# EAGLE library part PWR_REG_TCS4525 (library !GPLIB_ACTIVE)
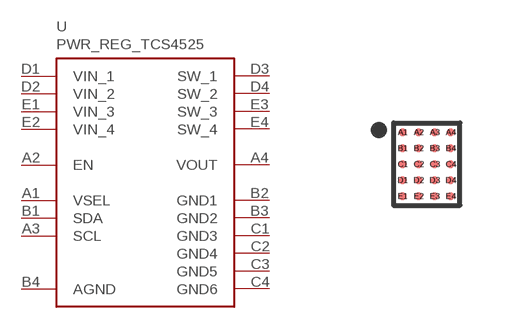
[diagram p112: symbol with the pads of WLCSP-20_L2.0-W1.6-R5-C4-P0.40-TL; footprint WLCSP-20_L2.0-W1.6-R5-C4-P0.40-TL]

Designator prefix U

## PWR_REG_TCS4525_TCS4525_WT  [WLCSP-20_L2.0-W1.6-R5-C4-P0.40-TL]
A1  VSEL  out
A2  EN  out
A3  SCL  out
A4  VOUT  out
B1  SDA  out
B2  GND1  pwr
B3  GND2  pwr
B4  AGND  pwr
C1  GND3  pwr
C2  GND4  pwr
C3  GND5  pwr
C4  GND6  pwr
D1  VIN_1  in
D2  VIN_2  in
D3  SW_1  out
D4  SW_2  out
E1  VIN_3  in
E2  VIN_4  in
E3  SW_3  out
E4  SW_4  out

## Footprint WLCSP-20_L2.0-W1.6-R5-C4-P0.40-TL (pad centres in mm)
smd 0.2 x 0.2: A1 -0.6,0.8; A2 -0.2,0.8; A3 0.2,0.8; A4 0.6,0.8; B1 -0.6,0.4; B2 -0.2,0.4; B3 0.2,0.4; B4 0.6,0.4; C1 -0.6,0; C2 -0.2,0; C3 0.2,0; C4 0.6,0; D1 -0.6,-0.4; D2 -0.2,-0.4; D3 0.2,-0.4; D4 0.6,-0.4; E1 -0.6,-0.8; E2 -0.2,-0.8; E3 0.2,-0.8; E4 0.6,-0.8